# EAGLE library part OPA4140 (library OPA4140_v3)
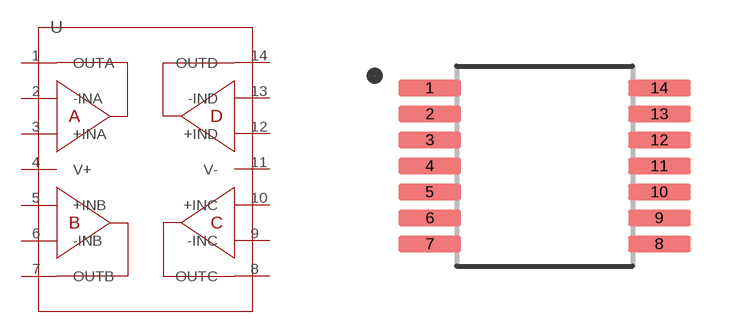
[diagram p0: symbol with the pads of SOP65P640X120-14N; footprint SOP65P640X120-14N]

Designator prefix -

## OPA4140  [SOP65P640X120-14N]
1  OUTA
2  -INA
3  +INA
4  V+
5  +INB
6  -INB
7  OUTB
8  OUTC
9  -INC
10  +INC
11  V-
12  +IND
13  -IND
14  OUTD

## Footprint SOP65P640X120-14N (pad centres in mm)
smd 1.57 x 0.41: 1 -2.87,1.95; 2 -2.87,1.3; 3 -2.87,0.65; 4 -2.87,0; 5 -2.87,-0.65; 6 -2.87,-1.3; 7 -2.87,-1.95; 8 2.87,-1.95; 9 2.87,-1.3; 10 2.87,-0.65; 11 2.87,0; 12 2.87,0.65; 13 2.87,1.3; 14 2.87,1.95